# Altium schematic symbol library Connector-HDMI.SchLib: 5 symbols
Pins are listed as number, name and electrical type; pins without a type are passive.

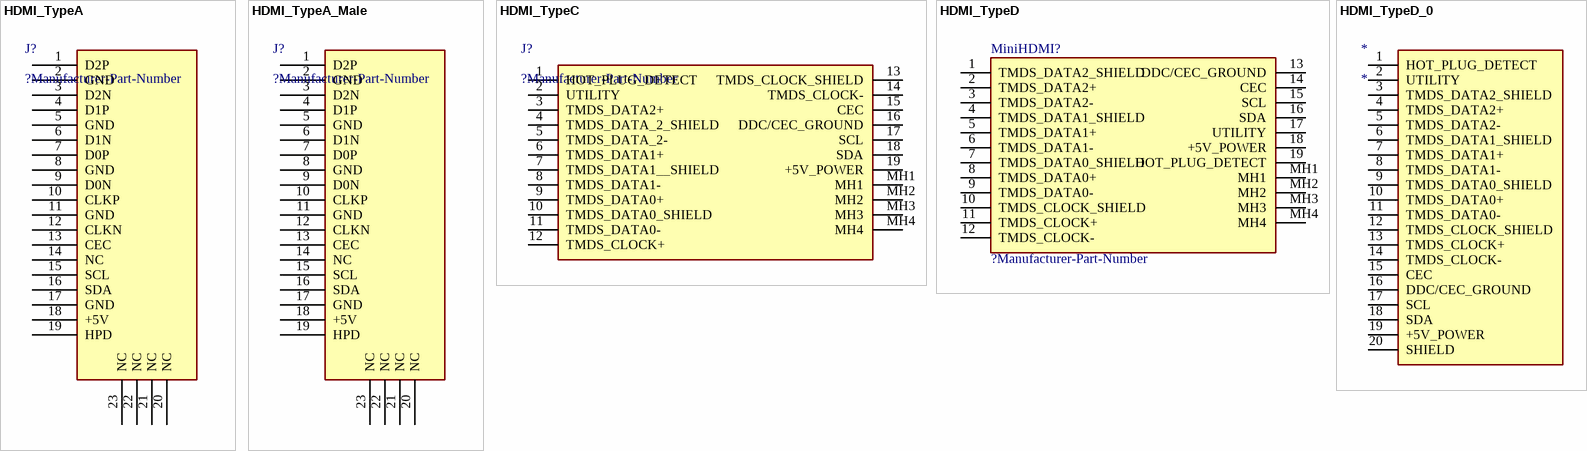
[diagram p0: symbols HDMI_TypeA to HDMI_TypeD_0]

## HDMI_TypeA
designator J?, comment ?Manufacturer-Part-Number
HDMI-TypeA座子; Manufacturer_Name: Amphenol; Manufacturer_Part_Number: 10029449-001RLF; LCSC: *; Manufacturer_Name_1: *; Manufacturer_Part_Number_1: *
footprint HDMI_HDMI-001 (Standard HDMI SMT)
footprint HDMI_HDMI-001C (Std HDMI, Flag, T/H)
footprint HDMI-SMD_HDMI-101S (HDMI-101S XUNPU(讯普))
pins: 1 D2P, 2 GND, 3 D2N, 4 D1P, 5 GND, 6 D1N, 7 D0P, 8 GND, 9 D0N, 10 CLKP, 11 GND, 12 CLKN, 13 CEC, 14 NC, 15 SCL, 16 SDA, 17 GND, 18 +5V, 19 HPD, 20 NC, 21 NC, 22 NC, 23 NC

## HDMI_TypeA_Male
designator J?, comment ?Manufacturer-Part-Number
HDMI-TypeA 公头 夹板1.6; Manufacturer_Name: 华宇创; Manufacturer_Part_Number: HYC109-HDMIA19-160; LCSC: C711355; Manufacturer_Name_1: *; Manufacturer_Part_Number_1: *
footprint HDMI_HDMI-CLAMP-MALE (夹板1.6mm 公头 (920-867A2021Y10100))
pins: 1 D2P, 2 GND, 3 D2N, 4 D1P, 5 GND, 6 D1N, 7 D0P, 8 GND, 9 D0N, 10 CLKP, 11 GND, 12 CLKN, 13 CEC, 14 NC, 15 SCL, 16 SDA, 17 GND, 18 +5V, 19 HPD, 20 NC, 21 NC, 22 NC, 23 NC

## HDMI_TypeC
designator J?, comment ?Manufacturer-Part-Number
Micro HDMI链接座子
footprint HDMI_HDMI-101S (HDMI-101S XUNPU(讯普))
pins: 1 HOT_PLUG_DETECT, 2 UTILITY, 3 TMDS_DATA2+, 4 TMDS_DATA_2_SHIELD, 5 TMDS_DATA_2-, 6 TMDS_DATA1+, 7 TMDS_DATA1__SHIELD, 8 TMDS_DATA1-, 9 TMDS_DATA0+, 10 TMDS_DATA0_SHIELD, 11 TMDS_DATA0-, 12 TMDS_CLOCK+, 13 TMDS_CLOCK_SHIELD, 14 TMDS_CLOCK-, 15 CEC, 16 DDC/CEC_GROUND, 17 SCL, 18 SDA, 19 +5V_POWER, MH1, MH2, MH3, MH4

## HDMI_TypeD
designator MiniHDMI?, comment ?Manufacturer-Part-Number
Mini HDMI链接座子; Manufacturer_Name: CNC Tech; Manufacturer_Part_Number: 2001-1-2-21-00-BK
footprint HDMI_MiniHDMI (Mini HDMI ATOM(爱特姆)  厂家型号： HD219F-3D05200)
pins: 1 TMDS_DATA2_SHIELD, 2 TMDS_DATA2+, 3 TMDS_DATA2-, 4 TMDS_DATA1_SHIELD, 5 TMDS_DATA1+, 6 TMDS_DATA1-, 7 TMDS_DATA0_SHIELD, 8 TMDS_DATA0+, 9 TMDS_DATA0-, 10 TMDS_CLOCK_SHIELD, 11 TMDS_CLOCK+, 12 TMDS_CLOCK-, 13 DDC/CEC_GROUND, 14 CEC, 15 SCL, 16 SDA, 17 UTILITY, 18 +5V_POWER, 19 HOT_PLUG_DETECT, MH1, MH2, MH3, MH4

## HDMI_TypeD_0
designator *
footprint HDMI_TYPE_D_公头_夹板 (夹板1mm)
pins: 1 HOT_PLUG_DETECT, 2 UTILITY, 3 TMDS_DATA2_SHIELD, 4 TMDS_DATA2+, 5 TMDS_DATA2-, 6 TMDS_DATA1_SHIELD, 7 TMDS_DATA1+, 8 TMDS_DATA1-, 9 TMDS_DATA0_SHIELD, 10 TMDS_DATA0+, 11 TMDS_DATA0-, 12 TMDS_CLOCK_SHIELD, 13 TMDS_CLOCK+, 14 TMDS_CLOCK-, 15 CEC, 16 DDC/CEC_GROUND, 17 SCL, 18 SDA, 19 +5V_POWER, 20 SHIELD